# Altium schematic symbol library MainLibrary.SchLib: 167 symbols (part 1 of 2)
Pins are listed as number, name and electrical type; pins without a type are passive.

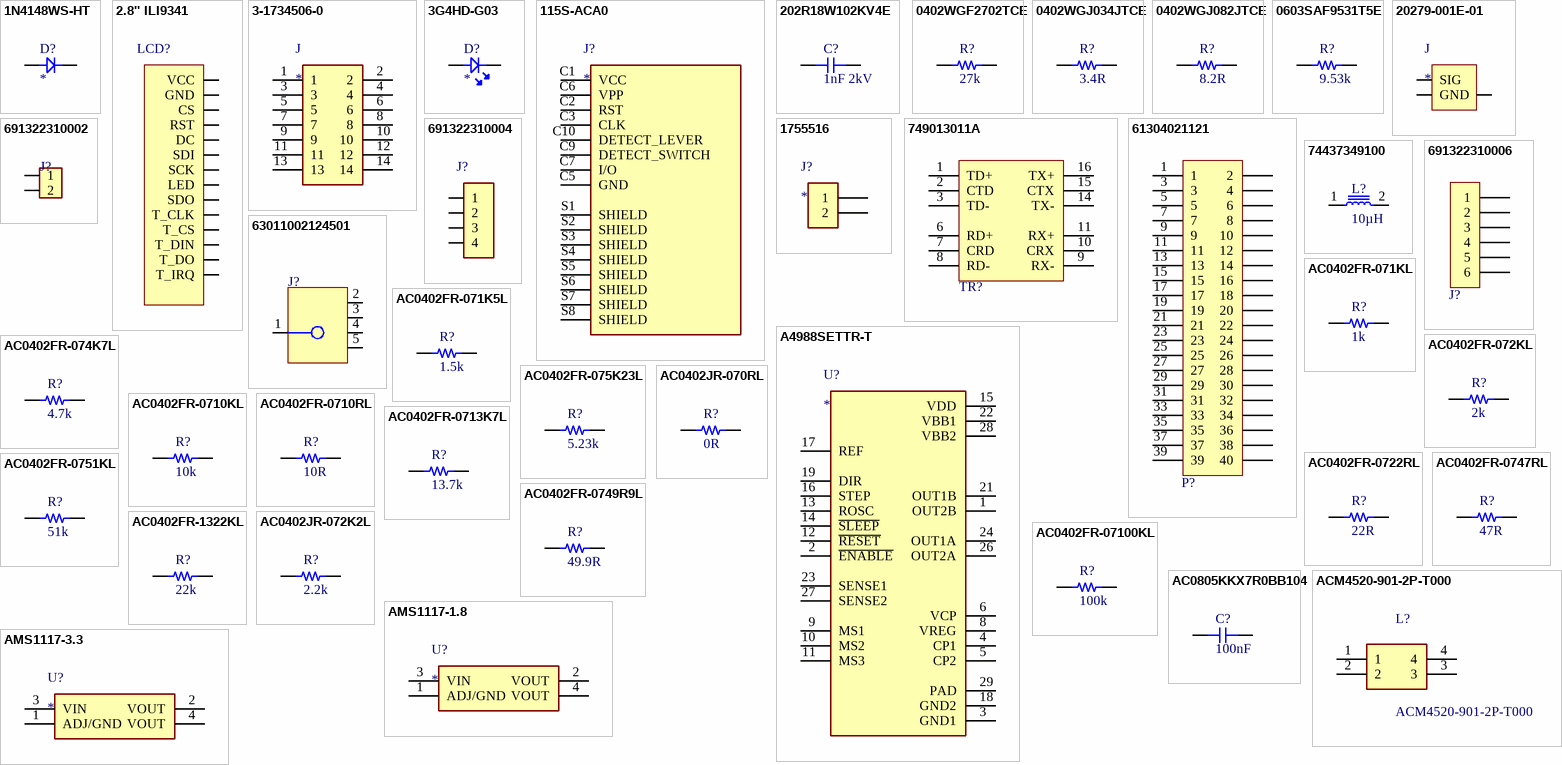
[diagram p0: symbols 1N4148WS-HT to AMS1117-3.3]

## 1N4148WS-HT
designator D?
DIODE FAST SWITCHING Single 150mA 75V SMT SOD323; Manufacturer_Name: Lite-On; Manufacturer_Part_Number: LTST-C190KRKT; Datasheet Link: https://componentsearchengine.com/Datasheets/1/LTST-C190KRKT.pdf; Height: 0.8mm; Mouser Part Number: 859-LTST-C190KRKT; Mouser Price/Stock: https://www.mouser.co.uk/ProductDetail/Lite-On/LTST-C190KRKT?qs=kAD5fFa1n5VY3YYNWPC1Fg%3D%3D; Arrow Part Number: LTST-C190KRKT; Arrow Price/Stock: https://www.arrow.com/en/products/ltst-c190krkt/lite-on-technology?region=europe
footprint SOD323
pins: A, C

## 2.8'' ILI9341
designator LCD?, comment 2.8 Inch LCD TFT  (value not drawn)
footprint 2.8_ILI9841
pins: 1 VCC, 2 GND, 3 CS, 4 RST, 5 DC, 6 SDI, 7 SCK, 8 LED, 9 SDO, 10 T_CLK, 11 T_CS, 12 T_DIN, 13 T_DO, 14 T_IRQ

## 3-1734506-0
designator J
RCPT, 2.0MM, 14P,VRT MT, 8 Au, 2.6ST; Centerline_Pitch: 2 mm[.079 in]; Number_of_Positions: 14; MF: TE Connectivity; Product_Type: Connector; MP: 3-1734506-0; EU_RoHS_Compliance: Compliant; Digi-Key_Part_Number: A108125-ND; Digi-Key_Purchase_URL: https://www.digikey.vn/product-detail/en/te-connectivity-amp-connectors/3-1734506-0/A108125-ND/4022237?utm_source=snapeda&utm_medium=aggregator&utm_campaign=symbol; SnapEDA_Link: https://www.snapeda.com/parts/3-1734506-0/TE%20Connectivity%20AMP%20Connectors/view-part/1653707/?ref=snap; Package: None; TE_purchase_URL: https://www.te.com/usa-en/product-3-1734506-0.html?te_bu=Cor&te_type=disp&te_campaign=seda_glo_cor-seda-global-disp-prtnr-fy19-seda-model-bom-cta_sma-317_1&elqCampaignId=32493; Value: *
footprint TE_3-1734506-0
pins: 1, 2, 3, 4, 5, 6, 7, 8, 9, 10, 11, 12, 13, 14

## 3G4HD-G03
designator D?
LED 3MM GREEN 20mcd 45° GREEN/DIFFUSED; Manufacturer_Name: Lite-On; Manufacturer_Part_Number: LTST-C190KRKT; Datasheet Link: https://componentsearchengine.com/Datasheets/1/LTST-C190KRKT.pdf; Height: 0.8mm; Mouser Part Number: 859-LTST-C190KRKT; Mouser Price/Stock: https://www.mouser.co.uk/ProductDetail/Lite-On/LTST-C190KRKT?qs=kAD5fFa1n5VY3YYNWPC1Fg%3D%3D; Arrow Part Number: LTST-C190KRKT; Arrow Price/Stock: https://www.arrow.com/en/products/ltst-c190krkt/lite-on-technology?region=europe
footprint LED_SSL-LX4673GD-LA20
pins: A, C

## 115S-ACA0
designator J?
Nano SIM Card Connector, Eject Type, Top Mount, H=1.35mm, 5u; MF: Attend; MP: 115S-ACA0; Check_prices: https://www.snapeda.com/parts/115S-ACA0/Attend/view-part/2618528/?ref=eda; Package: None; Value: *; SnapEDA_Link: https://www.snapeda.com/parts/115S-ACA0/Attend/view-part/2618528/?ref=snap; Availability: Warning; Price: None
footprint ATTEND_115S-ACA0
pins: C1 VCC (power), C2 RST, C3 CLK, C5 GND (power), C6 VPP, C7 I/O, C9 DETECT_SWITCH, C10 DETECT_LEVER, S1 SHIELD, S2 SHIELD, S3 SHIELD, S4 SHIELD, S5 SHIELD, S6 SHIELD, S7 SHIELD, S8 SHIELD

## 202R18W102KV4E
designator C?, comment 1nF 2kV
MLCC (3216) 1206 1nF 2000VDC ±10% X7R
footprint 1206
pins: 1, 2

## 0402WGF2702TCE
designator R?, comment 27k
RES.(1005) 0402 27K Ohms 1% 1/16W 100PPM
footprint 0402_RES
pins: 1, 2

## 0402WGJ034JTCE
designator R?, comment 3.4R
RES.(1005) 0402 3.4 Ohms 5% 1/16W 400PPM
footprint 0402_RES
pins: 1, 2

## 0402WGJ082JTCE
designator R?, comment 8.2R
RES.(1005) 0402 8.2 Ohms 5% 1/16W 400PPM
footprint 0402_RES
pins: 1, 2

## 0603SAF9531T5E
designator R?, comment 9.53k
RES.(1608) 0603 9.53K Ohms 1% 1/10W-S 100PPM
footprint 0603_RES
pins: 1, 2

## 20279-001E-01
designator J
Conn MHF 0Hz to 6GHz 50Ohm Solder ST SMD RCP Gold T/R; MP: 20279-001E-01; MF: Taoglas Limited; Package: None; SnapEDA_Link: https://www.snapeda.com/parts/20279-001E-01/Taoglas%20Limited/view-part/3221459/?ref=snap; Price: None; Value: *; Availability: Unavailable
footprint IPEX_20279-001E-01
pins: 1 SIG, 2 GND, 3 GND

## 1755516
designator J?
TERM BLOCK HDR 2POS VERT 5MM; MP: 1755516; Package: None; Price: None; Value: *; Availability: Unavailable
footprint PHOENIX_1755516
pins: 1, 2

## 749013011A
designator TR?, comment 10/100 Base-T, 1 Port  (value not drawn)
WE-LAN LAN Transformer, SMT, 10/100 Base-T, 1 Port, 350uH; Manufacturer Part Number: 749013011A; Manufacturer: Wurth Elektronik; HPLE: No; Insulation Test Voltage: 1500Vrms; Number of Ports: 1; PoE: PoE (up to 350 mA); Turns Ratio: 1:1; Category: Signal Transformers; Match Code: WE-LAN; ComponentLink1Description: Website Link; ComponentLink1URL: https://www.we-online.com/redexpert/article/749013011A?ad; ComponentLink2Description: Datasheet Link; ComponentLink2URL: https://www.we-online.com/redexpert/spec/749013011A?ad; Mount: Surface Mount; Operating Temperature Max: 105°C; Operating Temperature Min: -40°C; Packaging: Tape and Reel; Length: 12.7mm; Width: 8.8mm; Height: 6.35mm; Data Rate: 10/100 Base-T; Inductance: 350uH
footprint 749013011A
pins: 1 TD+, 2 CTD, 3 TD-, 6 RD+, 7 CRD, 8 RD-, 9 RX-, 10 CRX, 11 RX+, 14 TX-, 15 CTX, 16 TX+

## 61304021121
designator P?  (value not drawn)
WR-PHD Pin Header, THT, Vertical, pitch 2.54mm, 2 Row, 40P; Manufacturer: Wurth Elektronik; Contact Resistance: 20mOhm; Rated Current: 3A; Working Voltage: 250V; Withstanding Voltage: 500V; Manufacturer Part Number: 61304021121; Category: Board-to-Board Connectors; Match Code: WR-PHD; ComponentLink1Description: Website Link; ComponentLink1URL: https://www.we-online.com/redexpert/article/61304021121?ad; ComponentLink2Description: Datasheet Link; ComponentLink2URL: https://www.we-online.com/redexpert/spec/61304021121?ad; Mount: Through Hole; Operating Temperature Max: 105°C; Operating Temperature Min: -40°C; Packaging: Bag; Gender: Pin Header; Number of Pins: 40; Number of Rows: 2; Orientation: Vertical; Pitch: 2.54mm
footprint 61304021121
pins: 1, 2, 3, 4, 5, 6, 7, 8, 9, 10, 11, 12, 13, 14, 15, 16, 17, 18, 19, 20, 21, 22, 23, 24, 25, 26, 27, 28, 29, 30, 31, 32, 33, 34, 35, 36, 37, 38, 39, 40

## 74437349100
designator L?, comment 10µH
INDUCTOR FIXED 10UH 3.2A 69 MOHM SMD; MP: ETQ-P3M150KVN; MF: Panasonic Electronic; Purchase-URL: https://pricing.snapeda.com/search/part/ETQ-P3M150KVN/?ref=eda; Package: SMD-2 Panasonic; Availability: In Stock; Price: None; SnapEDA_Link: https://www.snapeda.com/parts/ETQ-P3M150KVN/Panasonic%20Electronic%20Components/view-part/1543573/?ref=snap; Value: *; Check_prices: https://www.snapeda.com/parts/ETQ-P3M150KVN/Panasonic%20Electronic%20Components/view-part/1543573/?ref=eda
footprint WE-LHMI_7050 (SMT Power Inductor, 2-Leads, body 6.6x6.6mm)
pins: 1, 2

## 691322310002
designator J?  (value not drawn)
WURTH 3.81MM Terminal Block 691322310002
footprint WURTH_3_81_691322310002
pins: 1, 2

## 691322310004
designator J?  (value not drawn)
WURTH 3.81MM Terminal Block 691322310004
footprint 691322310004 (Horizontal PCB Header, pitch 3.81mm, 04p)
pins: 1, 2, 3, 4

## 691322310006
designator J?  (value not drawn)
WR-TBL Series 322 Horizontal PCB Header, THT, pitch 3.81mm, 6p; Manufacturer: Wurth Elektronik; Modularity: No; Rated Current: 10A; Working Voltage: 300V; ComponentLink1Description: Website Link; ComponentLink1URL: https://www.we-online.com/redexpert/article/691322310006?ad; ComponentLink2Description: Datasheet Link; ComponentLink2URL: https://www.we-online.com/redexpert/spec/691322310006?ad; Manufacturer Part Number: 691322310006; Category: Terminal Blocks; Match Code: WR-TBL; Mount: Through Hole; Operating Temperature Max: 105°C; Operating Temperature Min: -40°C; Packaging: Box; Application: Pluggable; Number of Pins: 6; Number of Rows: 1; Orientation: Horizontal; Pitch: 3.81mm
footprint 691322310006
pins: 1, 2, 3, 4, 5, 6

## 63011002124501
designator J?  (value not drawn)
WR-RPSMA Reverse Polarity SMA Connector, PCB THT Jack, Right Angle, DC~18GHz, 50Ω; Manufacturer: Wurth Elektronik; Center Contact Diameter: 1.27mm; Connector Type: RP SMA; Interface Type: MIL-STD-348; ComponentLink1Description: Website Link; ComponentLink1URL: https://www.we-online.com/redexpert/article/63011002124501?ad; ComponentLink2Description: Datasheet Link; ComponentLink2URL: https://www.we-online.com/redexpert/spec/63011002124501?ad; Manufacturer Part Number: 63011002124501; Category: Coaxial Connectors; Match Code: WR-RPSMA; Mount: Through Hole; Operating Temperature Max: 165°C; Operating Temperature Min: -65°C; Packaging: Tray; Frequency Range: DC~18GHz; Gender: Jack; Impedance: 50Ω; Orientation: Right Angle
footprint 63011002124501
pins: 1 Signal "Signal Pin", 2 GND, 3 GND, 4 GND, 5 GND

## A4988SETTR-T
designator U?
Bipolar Motor Driver DMOS Logic 28-QFN (5x5); MF: Allegro; MP: A4988SETTR-T; Check_prices: https://www.snapeda.com/parts/A4988SETTR-T/Allegro%20Industries/view-part/46276/?ref=eda; Value: *; Purchase-URL: https://pricing.snapeda.com/search/part/A4988SETTR-T/?ref=eda; Digi-Key_Part_Number: 620-1343-1-ND; SnapEDA_Link: https://www.snapeda.com/parts/A4988SETTR-T/Allegro%20Industries/view-part/46276/?ref=snap; Package: QFN-28 Allegro MicroSystems LLC
footprint QFN50P500X500X90-29N
pins: 1 OUT2B, 2 ~{ENABLE}, 3 GND1, 4 CP1, 5 CP2, 6 VCP, 8 VREG, 9 MS1, 10 MS2, 11 MS3, 12 ~{RESET}, 13 ROSC, 14 ~{SLEEP}, 15 VDD, 16 STEP, 17 REF, 18 GND2, 19 DIR, 21 OUT1B, 22 VBB1, 23 SENSE1, 24 OUT1A, 26 OUT2A, 27 SENSE2, 28 VBB2, 29 PAD

## AC0402FR-071K5L
designator R?, comment 1.5k
RES.(1005) 0402 1.5K Ohms 1% 1/16W 100PPM AEC-Q200
footprint 0402_RES
pins: 1, 2

## AC0402FR-071KL
designator R?, comment 1k
RES.(1005) 0402 1K Ohms 1% 1/16W 100PPM AEC-Q200 S
footprint 0402_RES
pins: 1, 2

## AC0402FR-072KL
designator R?, comment 2k
RES.(1005) 0402 2K Ohms 1% 1/16W 100PPM AEC-Q200 S
footprint 0402_RES
pins: 1, 2

## AC0402FR-074K7L
designator R?, comment 4.7k
RES.(1005) 0402 4.7K Ohms 1% 1/16W 100PPM AEC-Q200
footprint 0402_RES
pins: 1, 2

## AC0402FR-075K23L
designator R?, comment 5.23k
RES.(1005) 0402 5.23K Ohms 1% 1/16W 100PPM AEC-Q200
footprint 0402_RES
pins: 1, 2

## AC0402FR-0710KL
designator R?, comment 10k
RES.(1005) 0402 10K Ohms 1% 1/16W
footprint 0402_RES
pins: 1, 2

## AC0402FR-0710RL
designator R?, comment 10R
RES.(1005) 0402 10 Ohms 1% 1/16W 200PPM AEC-Q200 S
footprint 0402_RES
pins: 1, 2

## AC0402FR-0713K7L
designator R?, comment 13.7k
RES.(1005) 0402 13.7K Ohms 1% 1/16W 100PPM AEC-Q200
footprint 0402_RES
pins: 1, 2

## AC0402FR-0722RL
designator R?, comment 22R
RES.(1005) 0402 22 Ohms 1% 1/16W AEC-Q200
footprint 0402_RES
pins: 1, 2

## AC0402FR-0747RL
designator R?, comment 47R
RES.(1005) 0402 47 Ohms 1% 1/16W 100PPM AEC-Q200 S
footprint 0402_RES
pins: 1, 2

## AC0402FR-0749R9L
designator R?, comment 49.9R
RES.(1005) 0402 49.9 Ohms 1% 1/16W 100PPM AEC-Q200
footprint 0402_RES
pins: 1, 2

## AC0402FR-0751KL
designator R?, comment 51k
RES.(1005) 0402 51K Ohms 1% 1/16W 100PPM AEC-Q200
footprint 0402_RES
pins: 1, 2

## AC0402FR-1322KL
designator R?, comment 22k
RES.(1005) 0402 22K Ohms 1% 1/16W 100PPM AEC-Q200
footprint 0402_RES
pins: 1, 2

## AC0402FR-07100KL
designator R?, comment 100k
RES.(1005) 0402 100K Ohms 1% 1/16W 100PPM AEC-Q200
footprint 0402_RES
pins: 1, 2

## AC0402JR-070RL
designator R?, comment 0R
RES.(1005) 0402 0 Ohms JUMPER 1/16W AEC-Q200 SMT
footprint 0402_RES
pins: 1, 2

## AC0402JR-072K2L
designator R?, comment 2.2k
RES.(1005) 0402 2.2K Ohms 5% 1/16W
footprint 0402_RES
pins: 1, 2

## AC0805KKX7R0BB104
designator C?, comment 100nF
MLCC (2012) 0805 100nF 100VDC ±10% X7R
footprint 0603
pins: 1, 2

## ACM4520-901-2P-T000
designator L?
TDK - ACM4520-901-2P-T000 - COMMON MODE CHOKE, 50V, 2.3A, SURFACE MOUNT-SMD; Geometry.Height: 2mm; Manufacturer_Name: TDK; Manufacturer_Part_Number: ACM4520-901-2P-T000; Mouser Part Number: 810-ACM45209012PT000; Mouser Price/Stock: https://www.mouser.co.uk/ProductDetail/TDK/ACM4520-901-2P-T000?qs=zbxBLa8cTxhOnOT1K%252BrnFA%3D%3D; Arrow Part Number: ACM4520-901-2P-T000; Arrow Price/Stock: https://www.arrow.com/en/products/acm4520-901-2p-t000/tdk?region=nac; Datasheet Link: https://product.tdk.com/system/files/dam/doc/product/emc/emc/cmf_cmc/catalog/cmf_commercial_power_acm4520_en.pdf
footprint ACM45204212PT000
pins: 1, 2, 3, 4

## AMS1117-1.8
designator U?
1A LOW DROPOUT VOLTAGE REGULATOR SOT-223; MP: AMS1117; MF: Advanced Monolithic Systems; Price: None; Availability: Not in stock; Package: SOT-223 Seeed Technology; Value: *; SnapEDA_Link: https://www.snapeda.com/parts/AMS1117/Advanced+Monolithic+Systems/view-part/?ref=snap; Check_prices: https://www.snapeda.com/parts/AMS1117/Advanced+Monolithic+Systems/view-part/?ref=eda
footprint SOT229P700X180-4N
pins: 1 ADJ/GND (power), 2 VOUT, 3 VIN, 4 VOUT

## AMS1117-3.3
designator U?
1A LOW DROPOUT VOLTAGE REGULATOR SOT-223; MP: AMS1117; MF: Advanced Monolithic Systems; Price: None; Availability: Not in stock; Package: SOT-223 Seeed Technology; Value: *; SnapEDA_Link: https://www.snapeda.com/parts/AMS1117/Advanced+Monolithic+Systems/view-part/?ref=snap; Check_prices: https://www.snapeda.com/parts/AMS1117/Advanced+Monolithic+Systems/view-part/?ref=eda
footprint SOT229P700X180-4N
pins: 1 ADJ/GND (power), 2 VOUT, 3 VIN, 4 VOUT

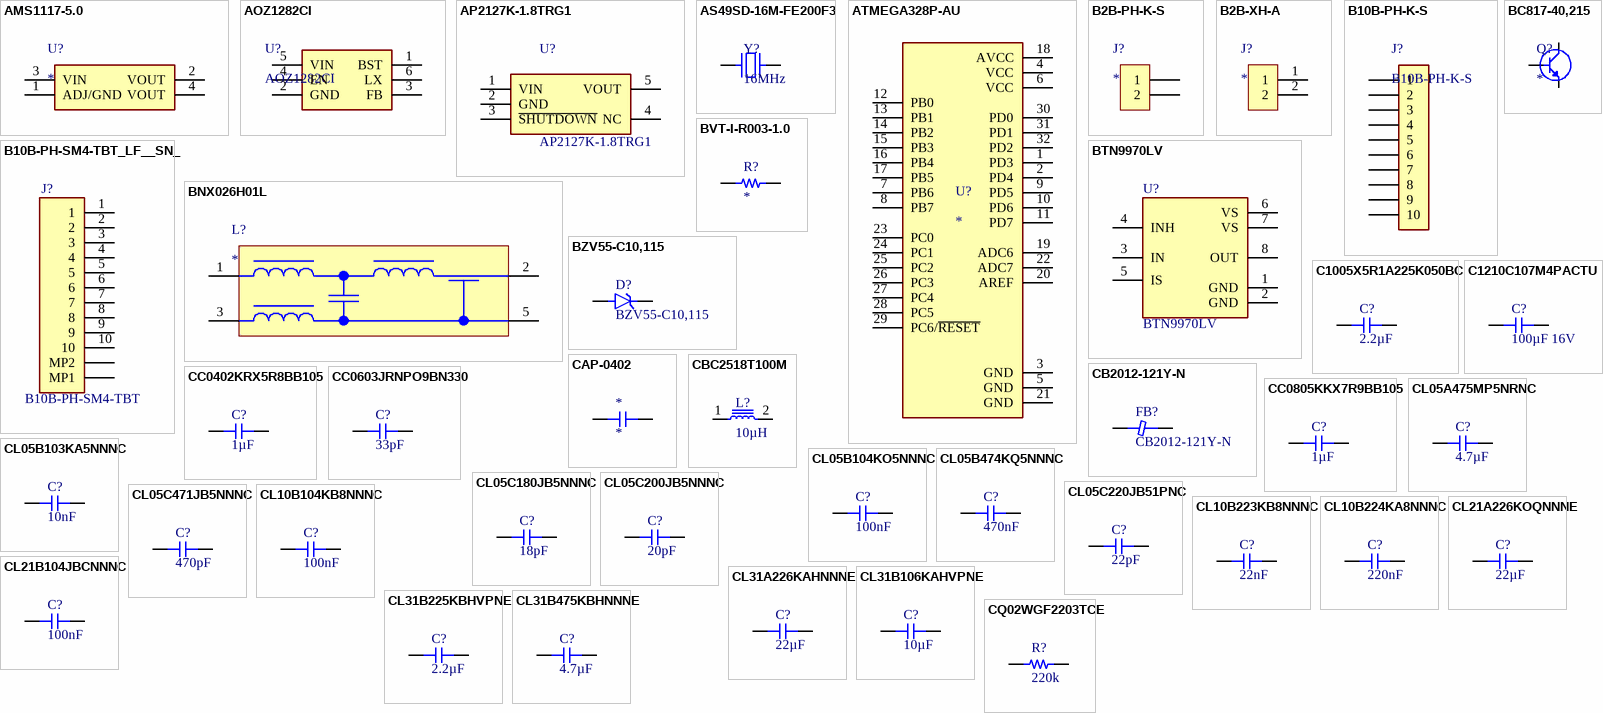
[diagram p1: symbols AMS1117-5.0 to CQ02WGF2203TCE]

## AMS1117-5.0
designator U?
1A LOW DROPOUT VOLTAGE REGULATOR SOT-223; MP: AMS1117; MF: Advanced Monolithic Systems; Price: None; Availability: Not in stock; Package: SOT-223 Seeed Technology; Value: *; SnapEDA_Link: https://www.snapeda.com/parts/AMS1117/Advanced+Monolithic+Systems/view-part/?ref=snap; Check_prices: https://www.snapeda.com/parts/AMS1117/Advanced+Monolithic+Systems/view-part/?ref=eda
footprint SOT229P700X180-4N
pins: 1 ADJ/GND (power), 2 VOUT, 3 VIN, 4 VOUT

## AOZ1282CI
designator U?
IC-1282 REG BUCK ADJ 1.2A SOT23-6; Manufacturer_Name: Alpha & Omega Semiconductors; Datasheet Link: http://www.aosmd.com/res/data_sheets/AOZ1282CI.pdf; Height: 1.25mm; Manufacturer_Part_Number: AOZ1282CI; Arrow Part Number: AOZ1282CI; Arrow Price/Stock: https://www.arrow.com/en/products/aoz1282ci/alpha-and-omega-semiconductor?region=nac
footprint SOT95P280X125-6N
pins: 1 BST, 2 GND, 3 FB, 4 EN, 5 VIN, 6 LX

## AP2127K-1.8TRG1
designator U?
Linear Voltage Regulator IC Positive Fixed 1 Output 300mA SOT-23-5; Manufacturer_Name: Diodes Incorporated; Geometry.Height: 1.45mm; Manufacturer_Part_Number: AP2127K-1.8TRG1; Mouser Part Number: 621-AP2127K-1.8TRG1; Mouser Price/Stock: https://www.mouser.co.uk/ProductDetail/Diodes-Incorporated/AP2127K-1.8TRG1?qs=x6A8l6qLYDDmU4WXw4%252BBlA%3D%3D; Arrow Part Number: AP2127K-1.8TRG1; Arrow Price/Stock: https://www.arrow.com/en/products/ap2127k-1.8trg1/diodes-incorporated?region=nac; Datasheet Link: https://www.diodes.com//assets/Datasheets/AP2127.pdf
footprint SOT95P282X145-5N
pins: 1 VIN, 2 GND, 3 ~{SHUTDOWN}, 4 NC, 5 VOUT

## AS49SD-16M-FE200F3
designator Y?, comment 16MHz
CRYSTAL 16MHz 20pF SMD
footprint HC49S
pins: 1, 2

## ATMEGA328P-AU
designator U?
AVR AVRÂ® ATmega Microcontroller IC 8-Bit 20MHz 32KB (16K x 16) FLASH 32-TQFP (7x7); MF: Microchip; MP: ATMEGA328P-AU; SnapEDA_Link: https://www.snapeda.com/parts/ATMEGA328P-AU/Microchip/view-part/?ref=snap; Package: TQFP-32 Microchip; Value: *; Check_prices: https://www.snapeda.com/parts/ATMEGA328P-AU/Microchip/view-part/?ref=eda
footprint QFP80P900X900X120-32N
pins: 1 PD3, 2 PD4, 3 GND (power), 4 VCC (power), 5 GND (power), 6 VCC (power), 7 PB6, 8 PB7, 9 PD5, 10 PD6, 11 PD7, 12 PB0, 13 PB1, 14 PB2, 15 PB3, 16 PB4, 17 PB5, 18 AVCC (power), 19 ADC6, 20 AREF, 21 GND (power), 22 ADC7, 23 PC0, 24 PC1, 25 PC2, 26 PC3, 27 PC4, 28 PC5, 29 PC6/~{RESET}, 30 PD0, 31 PD1, 32 PD2

## B2B-PH-K-S
designator J?
Connector Header Through Hole 2 position 0.079 (2.00mm); MF: JST Sales America Inc.; MP: B2B-PH-K-S; SnapEDA_Link: https://www.snapeda.com/parts/B2B-PH-K-S/JST/view-part/?ref=snap; Package: None; Value: *; Check_prices: https://www.snapeda.com/parts/B2B-PH-K-S/JST/view-part/?ref=eda
footprint JST_B2B-PH-K-S
pins: 1, 2

## B2B-XH-A
designator J?
CONN HEADER VERT 2POS 2.5MM; MF: {'manufacturer': u'JST Sales America Inc.'}; MP: B2B-XH-A; Package: None; Price: None; Value: *; Availability: Unavailable
footprint JST_B2B-XH-A
pins: 1, 2

## B10B-PH-K-S
designator J?
2.0 mm pitch/Disconnectable Crimp style connectors; MF: JST Sales America Inc.; SnapEDA_Link: https://www.snapeda.com/parts/B10B-PH-K-S/JST/view-part/?ref=snap; Package: None; Value: *; MP: B10B-PH-K-S; Check_prices: https://www.snapeda.com/parts/B10B-PH-K-S/JST/view-part/?ref=eda
footprint JST_B10B-PH-K-S
pins: 1, 2, 3, 4, 5, 6, 7, 8, 9, 10

## B10B-PH-SM4-TBT_LF__SN_
designator J?, comment B10B-PH-SM4-TBT
Connector Header Surface Mount 10 position 0.079" (2.00mm); Manufacturer_Name: JST (JAPAN SOLDERLESS TERMINALS); Geometry.Height: 6.6mm; Manufacturer_Part_Number: B10B-PH-SM4-TBT; Mouser Part Number: *; Mouser Price/Stock: *; Arrow Part Number: *; Arrow Price/Stock: *; Datasheet Link: http://www.jst-mfg.com/product/pdf/eng/ePH.pdf
footprint B10BPHSM4TBTLFSN
pins: 1, 2, 3, 4, 5, 6, 7, 8, 9, 10, MP1, MP2

## BC817-40,215
designator Q?
0.5A 45V BJT NPN Transistor SOT23 SMD; Manufacturer_Name: Nexperia; Manufacturer_Part_Number: BC817-40,215; Datasheet Link: https://assets.nexperia.com/documents/data-sheet/BC817_SER.pdf; Height: 1.1mm; Mouser Part Number: 771-BC817-40-T/R; Mouser Price/Stock: https://www.mouser.co.uk/ProductDetail/Nexperia/BC817-40215?qs=me8TqzrmIYU%252B245p8hOLaQ%3D%3D; Arrow Part Number: BC817-40,215; Arrow Price/Stock: https://www.arrow.com/en/products/bc817-40215/nexperia?region=nac
footprint BC81740215
pins: 1 B, 2 E, 3 C

## BNX026H01L
designator L?
LC EMI Filter 5th Order Low Pass 2 Channel C = 10ÂµF 20 A 4-SMD, No Lead; MF: Murata; MP: BNX026H01L; Value: *; SnapEDA_Link: https://www.snapeda.com/parts/BNX026H01L/Murata/view-part/?ref=snap; Purchase-URL: https://pricing.snapeda.com/search/part/BNX026H01L/?ref=eda; Availability: In Stock; Price: None; Package: SMD-4 Murata; Check_prices: https://www.snapeda.com/parts/BNX026H01L/Murata/view-part/?ref=eda
footprint FIL_BNX026H01L
pins: 1 B, 2 CB, 3 PSG, 5 CB

## BTN9970LV
designator U?
High Current PN Half-Bridge with Integrated Driver; Manufacturer: Infineon Tecnologies; Manufacturer Order Number: BTN9970LV; PackageReference: PG-HSOF-7-1
footprint IFX-PG-HSOF-7-1-V (HSOF-7-1; SMD, 0.90 mm Pitch, 8 pin, 6.70 mm L X 7.00 mm W X 2.30 mm H body)
pins: 1 GND (power) "Ground", 2 GND (power) "Ground", 3 IN "Defines whether high- or low-side switch is activated", 4 INH "Inhibit", 5 IS "Current Sense, Temperature Sense, slew-rate level and Diagnostics", 6 VS (power) "Supply", 7 VS (power) "Supply", 8 OUT "Power output of the bridge"

## BVT-I-R003-1.0
designator R?
3mOhm Shunt Resistor 2512 SMD Package; Manufacturer_Name: Isabellenhutte; Manufacturer_Part_Number: BVT-I-R003-1.0; Datasheet Link: https://www.isabellenhuetteusa.com/wp-content/uploads/2020/05/BVT.pdf; Height: 0.38mm
footprint BVTIR00310
pins: 1, 2

## BZV55-C10,115
designator D?
500mW 10V Zener Diode; MP: BZV55C47_L1; Value: *; Availability: Unavailable; Package: None; Price: None
footprint DIOMELF3515N
pins: A, C K

## C1005X5R1A225K050BC
designator C?, comment 2.2µF
MLCC (1005) 0402 2.2uF 10VDC ±10% X5R
footprint 0402_CAP
pins: 1, 2

## C1210C107M4PACTU
designator C?, comment 100µF 16V
MLCC (3225) 1210 100uF 16VDC ±20% X5R
footprint 1210_CAP
pins: 1, 2

## CAP-0402
designator *
footprint 0402_CAP
pins: 1, 2

## CB2012-121Y-N
designator FB?
Ferrite Bead 300mA 0805 SMD
footprint Inductor-0805
pins: 1, 2

## CBC2518T100M
designator L?, comment 10µH
10µH Unshielded Wirewound Inductor 680mA 468mOhm Max 1007 2518 Metric; MP: CBC2518T100M; MF: Taiyo Yuden; Price: None; Package: 2518 Taiyo Yuden; Value: *; Availability: Unavailable; SnapEDA_Link: https://www.snapeda.com/parts/CBC2518T100M/Taiyo%20Yuden/view-part/1393386/?ref=snap
footprint INDC2518X200N
pins: 1, 2

## CC0402KRX5R8BB105
designator C?, comment 1µF
MLCC (1005) 0402 1uF 25VDC ±10% X5R
footprint 0402_CAP
pins: 1, 2

## CC0603JRNPO9BN330
designator C?, comment 33pF
MLCC (1608) 0603 33pF 50VDC ±5% C0G (NP0)
footprint 0603
pins: 1, 2

## CC0805KKX7R9BB105
designator C?, comment 1µF
MLCC (2012) 0805 1uF 50VDC ±10% X7R
footprint 0805
pins: 1, 2

## CL05A475MP5NRNC
designator C?, comment 4.7µF
MLCC (1005) 0402 4.7uF 10VDC ±20% X5R
footprint 0402_CAP
pins: 1, 2

## CL05B103KA5NNNC
designator C?, comment 10nF
MLCC (1005) 0402 10nF 25VDC ±10% X7R
footprint 0402_CAP
pins: 1, 2

## CL05B104KO5NNNC
designator C?, comment 100nF
MLCC (1005) 0402 100nF 16VDC ±10% X7R
footprint 0402_CAP
pins: 1, 2

## CL05B474KQ5NNNC
designator C?, comment 470nF
MLCC (1005) 0402 470nF 6.3VDC ±10% X7R
footprint 0402_CAP
pins: 1, 2

## CL05C180JB5NNNC
designator C?, comment 18pF
MLCC (1005) 0402 18pF 50VDC ±5% C0G (NP0)
footprint 0402_CAP
pins: 1, 2

## CL05C200JB5NNNC
designator C?, comment 20pF
MLCC (1005) 0402 20pF 50VDC ±5% C0G (NP0)
footprint 0402_CAP
pins: 1, 2

## CL05C220JB51PNC
designator C?, comment 22pF
MLCC (1005) 0402 22pF 50VDC ±5% C0G (NP0)
footprint 0402_CAP
pins: 1, 2

## CL05C471JB5NNNC
designator C?, comment 470pF
MLCC (1005) 0402 470pF 50VDC ±5% C0G (NP0)
footprint 0402_CAP
pins: 1, 2

## CL10B104KB8NNNC
designator C?, comment 100nF
MLCC (1608) 0603 100nF 50VDC ±10% X7R
footprint 0603
pins: 1, 2

## CL10B223KB8NNNC
designator C?, comment 22nF
MLCC (1608) 0603 22nF 50VDC ±10% X7R
footprint 0603
pins: 1, 2

## CL10B224KA8NNNC
designator C?, comment 220nF
MLCC (1608) 0603 220nF 25VDC ±10% X7R
footprint 0603
pins: 1, 2

## CL21A226KOQNNNE
designator C?, comment 22µF
MLCC (2012) 0805 22uF 16VDC ±10% X5R
footprint 0805
pins: 1, 2

## CL21B104JBCNNNC
designator C?, comment 100nF
MLCC (2012) 0805 100nF 50VDC ±5% X7R
footprint 0805
pins: 1, 2

## CL31A226KAHNNNE
designator C?, comment 22µF
MLCC (3216) 1206 22uF 25VDC ±10% X5R
footprint 1206
pins: 1, 2

## CL31B106KAHVPNE
designator C?, comment 10µF
MLCC (3216) 1206 10uF 25VDC ±10% X7R AUTOMOTIVE
footprint 0805
pins: 1, 2

## CL31B225KBHVPNE
designator C?, comment 2.2µF
MLCC (3216) 1206 2.2uF 50VDC ±10% X7R AUTOMOTIVE
footprint 1206
pins: 1, 2

## CL31B475KBHNNNE
designator C?, comment 4.7µF
MLCC (3216) 1206 4.7uF 50VDC ±10% X7R
footprint 1206
pins: 1, 2

## CQ02WGF2203TCE
designator R?, comment 220k
RES.(1005) 0402 220K Ohms 1% 1/16W AUTOMOTIVE
footprint 0402_RES
pins: 1, 2

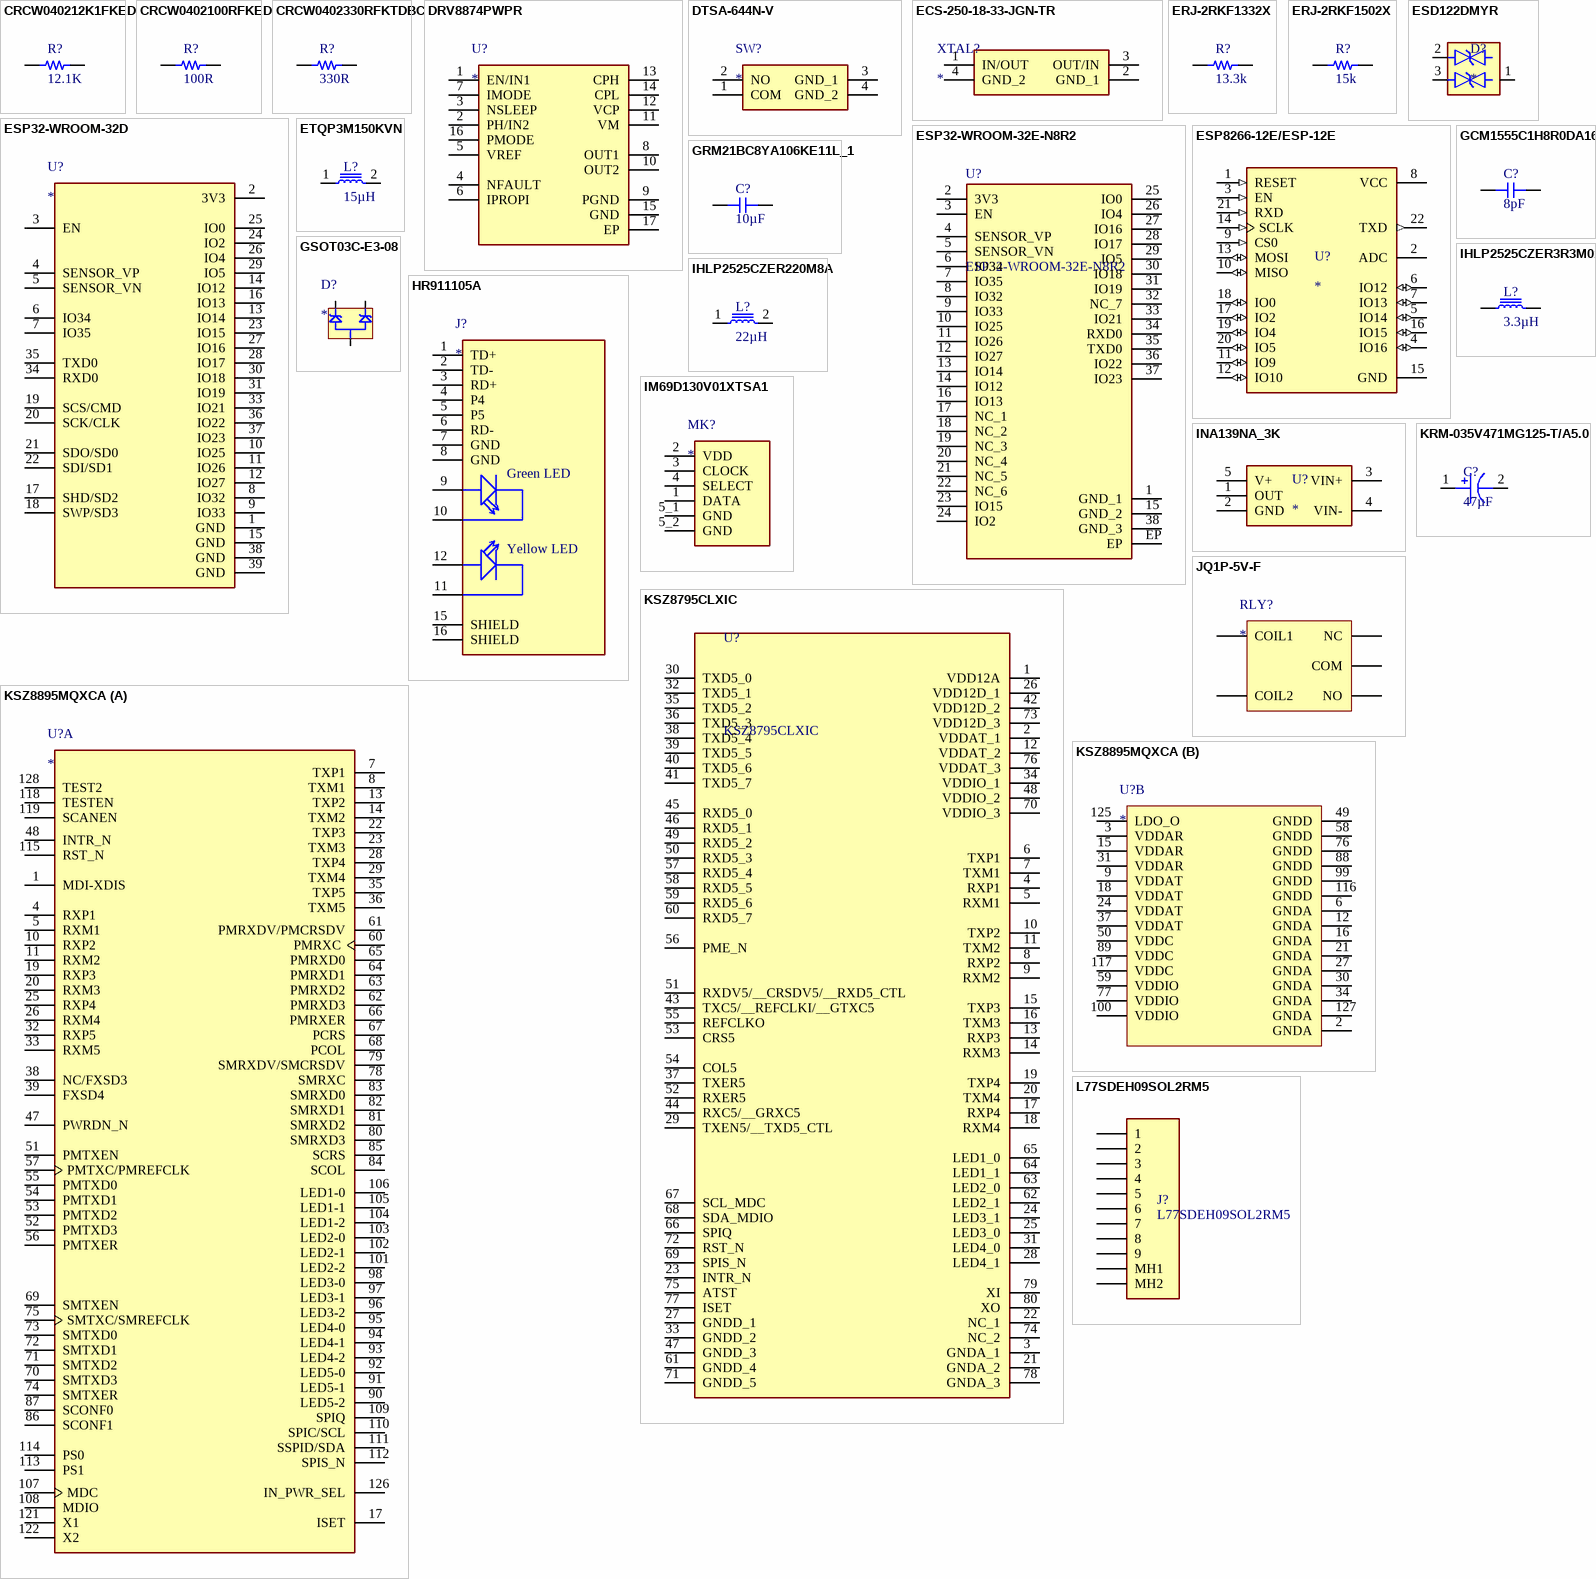
[diagram p2: symbols CRCW040212K1FKED to L77SDEH09SOL2RM5]

## CRCW040212K1FKED
designator R?, comment 12.1K
RES.(1005) 0402 12.1K Ohms 1% 1/16W 100PPM
footprint 0402_RES
pins: 1, 2

## CRCW0402100RFKED
designator R?, comment 100R
RES.(1005) 0402 100 Ohms 1% 1/16W 100PPM
footprint 0402_RES
pins: 1, 2

## CRCW0402330RFKTDBC
designator R?, comment 330R
RES.(1005) 0402 330 Ohms 1% 1/16W 100PPM
footprint 0402_RES
pins: 1, 2

## DRV8874PWPR
designator U?
40-V, 6-A H-bridge motor driver with integrated current sensing feedback; MP: DRV8874PWPR; MF: Texas Instruments; Price: None; Availability: In Stock; Package: HTSSOP-16 Texas Instruments; Value: *; SnapEDA_Link: https://www.snapeda.com/parts/DRV8874PWPR/Texas+Instruments/view-part/?ref=snap; Purchase-URL: https://pricing.snapeda.com/search/part/DRV8874PWPR/?ref=eda; Check_prices: https://www.snapeda.com/parts/DRV8874PWPR/Texas+Instruments/view-part/?ref=eda
footprint SOP65P640X120-17N
pins: 1 EN/IN1, 2 PH/IN2, 3 NSLEEP, 4 NFAULT, 5 VREF, 6 IPROPI, 7 IMODE, 8 OUT1, 9 PGND (power), 10 OUT2, 11 VM (power), 12 VCP (power), 13 CPH (power), 14 CPL (power), 15 GND (power), 16 PMODE, 17 EP

## DTSA-644N-V
designator SW?
Button DIP; Manufacturer_Name: Diptronics; Manufacturer_Part_Number: DTSA-644N-V; Datasheet Link: https://ru.mouser.com/ProductDetail/Diptronics/DTSA-644N-V?qs=gTYE2QTfZfTLDusQpQJufA%3D%3D; Height: 8mm; Mouser Part Number: 113-DTSA-644N-V; Mouser Price/Stock: https://www.mouser.co.uk/ProductDetail/Diptronics/DTSA-644N-V?qs=gTYE2QTfZfTLDusQpQJufA%3D%3D
footprint DTSA644NV
pins: 1 COM, 2 NO, 3 GND_1, 4 GND_2

## ECS-250-18-33-JGN-TR
designator XTAL?
25 MHz 4 Pin Crystal OSC SMD; Manufacturer_Name: ECS; Manufacturer_Part_Number: ECS-250-18-33-JGN-TR; Datasheet Link: https://componentsearchengine.com/Datasheets/1/ECS-250-18-33-JGN-TR.pdf; Height: 0.8mm; Mouser Part Number: 520-250-18-33-JGNT; Mouser Price/Stock: https://www.mouser.co.uk/ProductDetail/ECS/ECS-250-18-33-JGN-TR?qs=AQlKX63v8RsjuKdEYMjMow%3D%3D; Arrow Part Number: ECS-250-18-33-JGN-TR; Arrow Price/Stock: https://www.arrow.com/en/products/ecs-250-18-33-jgn-tr/ecs-international?region=nac
footprint ECS2501833JGNTR
pins: 1 IN/OUT, 2 GND_1, 3 OUT/IN, 4 GND_2

## ERJ-2RKF1332X
designator R?, comment 13.3k
RES.(1005) 0402 13.3K Ohms 1% 1/10W 100PPM
footprint 0402_RES
pins: 1, 2

## ERJ-2RKF1502X
designator R?, comment 15k
RES.(1005) 0402 15K Ohms 1% 1/10W 100PPM
footprint 0402_RES
pins: 1, 2

## ESD122DMYR
designator D?
Dual 0.2-pF, Â±3.6-V, Â±18-kV ESD protection diode for USB Type-C and HDMI 2.0; MF: Texas Instruments; MP: ESD122DMYR; SnapEDA_Link: https://www.snapeda.com/parts/ESD122DMYR/Texas+Instruments/view-part/?ref=snap; Package: X2SON-3 Texas Instruments; Value: *; Check_prices: https://www.snapeda.com/parts/ESD122DMYR/Texas+Instruments/view-part/?ref=eda
footprint DIO_ESD122DMYR
pins: 1 GND (power), 2 IO1, 3 IO2

## ESP32-WROOM-32D
designator U?
Bluetooth, WiFi 802.11b/g/n, Bluetooth v4.2 +EDR, Class 1, 2 and 3 Transceiver Module 2.4GHz ~ 2.5GHz Integrated; MP: ESP32-WROOM-32D; MF: Espressif Systems; Price: None; Availability: In Stock; Package: Module Espressif Systems; Value: *; SnapEDA_Link: https://www.snapeda.com/parts/ESP32-WROOM-32D/Espressif+Systems/view-part/?ref=snap; Purchase-URL: https://pricing.snapeda.com/search/part/ESP32-WROOM-32D/?ref=eda; Check_prices: https://www.snapeda.com/parts/ESP32-WROOM-32D/Espressif+Systems/view-part/?ref=eda
footprint MODULE_ESP32-WROOM-32D
pins: 1 GND, 2 3V3, 3 EN, 4 SENSOR_VP, 5 SENSOR_VN, 6 IO34, 7 IO35, 8 IO32, 9 IO33, 10 IO25, 11 IO26, 12 IO27, 13 IO14, 14 IO12, 15 GND, 16 IO13, 17 SHD/SD2, 18 SWP/SD3, 19 SCS/CMD, 20 SCK/CLK, 21 SDO/SD0, 22 SDI/SD1, 23 IO15, 24 IO2, 25 IO0, 26 IO4, 27 IO16, 28 IO17, 29 IO5, 30 IO18, 31 IO19, 33 IO21, 34 RXD0, 35 TXD0, 36 IO22, 37 IO23, 38 GND, 39 GND

## ESP32-WROOM-32E-N8R2
designator U?
Multiprotocol Modules ESP32-WROOM-32E integrates ESP32-D0WD-V3, with higher stability and safety performance.; Manufacturer_Name: Espressif Systems; Geometry.Height: 3.25mm; Manufacturer_Part_Number: ESP32-WROOM-32E-N8R2; Mouser Part Number: 356-ESP32WRM32EN8R2; Mouser Price/Stock: https://www.mouser.co.uk/ProductDetail/Espressif-Systems/ESP32-WROOM-32E-N8R2?qs=By6Nw2ByBD0mvGJSS3Ohlw%3D%3D; Arrow Part Number: *; Arrow Price/Stock: *; Datasheet Link: https://www.espressif.com/sites/default/files/documentation/esp32-wroom-32e_esp32-wroom-32ue_datasheet_en.pdf
footprint ESP32WROOM32EN8R2
footprint ESP32WROOM32EN8R2
pins: 1 GND_1, 2 3V3, 3 EN, 4 SENSOR_VP, 5 SENSOR_VN, 6 IO34, 7 IO35, 8 IO32, 9 IO33, 10 IO25, 11 IO26, 12 IO27, 13 IO14, 14 IO12, 15 GND_2, 16 IO13, 17 NC_1, 18 NC_2, 19 NC_3, 20 NC_4, 21 NC_5, 22 NC_6, 23 IO15, 24 IO2, 25 IO0, 26 IO4, 27 IO16, 28 IO17, 29 IO5, 30 IO18, 31 IO19, 32 NC_7, 33 IO21, 34 RXD0, 35 TXD0, 36 IO22, 37 IO23, 38 GND_3, EP

## ESP8266-12E/ESP-12E
designator U?
Integrated ESP8266 Ex + 4MB Flash 32 Bit 80-160MHz Wifi Microcontroller.; MF: AI-Thinker; MP: ESP8266-12E/ESP-12E; Value: *; SnapEDA_Link: https://www.snapeda.com/parts/ESP8266-12E/ESP-12E/AI-Thinker/view-part/?ref=snap; Availability: Not in stock; Price: None; Package: None; Check_prices: https://www.snapeda.com/parts/ESP8266-12E/ESP-12E/AI-Thinker/view-part/?ref=eda
footprint XCVR_ESP8266-12E/ESP-12E
pins: 1 RESET (in), 2 ADC, 3 EN (in), 4 IO16 (io), 5 IO14 (io), 6 IO12 (io), 7 IO13 (io), 8 VCC (power), 9 CS0 (in), 10 MISO (io), 11 IO9 (io), 12 IO10 (io), 13 MOSI (io), 14 SCLK (in), 15 GND (power), 16 IO15 (io), 17 IO2 (io), 18 IO0 (io), 19 IO4 (io), 20 IO5 (io), 21 RXD (in), 22 TXD (out)

## ETQP3M150KVN
designator L?, comment 15µH
15H Shielded Inductor 3A 109.12mOhm Max 2-SMD, J-Lead; MP: ETQ-P3M150KVN; MF: Panasonic Electronic; Purchase-URL: https://pricing.snapeda.com/search/part/ETQ-P3M150KVN/?ref=eda; Package: SMD-2 Panasonic; Availability: In Stock; Price: None; SnapEDA_Link: https://www.snapeda.com/parts/ETQ-P3M150KVN/Panasonic%20Electronic%20Components/view-part/1543573/?ref=snap; Value: *; Check_prices: https://www.snapeda.com/parts/ETQ-P3M150KVN/Panasonic%20Electronic%20Components/view-part/1543573/?ref=eda
footprint IND_ETQP3M150KVN
pins: 1, 2

## GCM1555C1H8R0DA16J
designator C?, comment 8pF
MLCC (1005) 0402 8pF 50VDC ±0.5pF C0G (NP0)
footprint 0402_CAP
pins: 1, 2

## GRM21BC8YA106KE11L_1
designator C?, comment 10µF
MLCC (2012) 0805 10uF 35VDC ±10% X6S
footprint 0805
pins: 1, 2

## GSOT03C-E3-08
designator D?
DIODE TVS 369W 3.3V SOT23-3; Manufacturer_Name: Nexperia; Manufacturer_Part_Number: BC817-40,215; Datasheet Link: https://assets.nexperia.com/documents/data-sheet/BC817_SER.pdf; Height: 1.1mm; Mouser Part Number: 771-BC817-40-T/R; Mouser Price/Stock: https://www.mouser.co.uk/ProductDetail/Nexperia/BC817-40215?qs=me8TqzrmIYU%252B245p8hOLaQ%3D%3D; Arrow Part Number: BC817-40,215; Arrow Price/Stock: https://www.arrow.com/en/products/bc817-40215/nexperia?region=nac
footprint BC81740215
pins: 1, 2, 3

## HR911105A
designator J?
RJ45 Isolated Connector + LED DIP Package; MP: HR911105A; MF: hanrun; SnapEDA_Link: https://www.snapeda.com/parts/HR911105A/HanRun/view-part/?ref=snap; Package: None; Check_prices: https://www.snapeda.com/parts/HR911105A/HanRun/view-part/?ref=eda; Price: None; Value: *; Availability: Not in stock
footprint HANRUN_HR911105A
pins: 1 TD+, 2 TD-, 3 RD+, 4 P4, 5 P5, 6 RD-, 7 GND (power), 8 GND (power), 9 GA, 10 GC, 11 YC, 12 YA, 15 SHIELD, 16 SHIELD
text: Green LED; Yellow LED

## IHLP2525CZER3R3M01
designator L?, comment 3.3µH
3.3uH Shielded Molded Inductor 6A 30 mOhms Non Standard surface mount 2525 (6363 metric); MF: Vishay Dale; MP: IHLP2525CZER3R3M01; SnapEDA_Link: https://www.snapeda.com/parts/IHLP2525CZER3R3M01/Vishay+Dale/view-part/?ref=snap; Package: Non Standard Vishay; Value: *; Check_prices: https://www.snapeda.com/parts/IHLP2525CZER3R3M01/Vishay+Dale/view-part/?ref=eda
footprint IND_IHLP2525CZER3R3M01
pins: 1, 2

## IHLP2525CZER220M8A
designator L?, comment 22µH
FIXED INDUCTOR 22UH 2.8A 174 MOHM SMD; Manufacturer_Name: Vishay; Manufacturer_Part_Number: IHLP2525CZER220M8A; Datasheet Link: https://componentsearchengine.com/Datasheets/2/IHLP2525CZER220M8A.pdf; Height: 3mm; Mouser Part Number: 70-IHLP2525CZR220M8A; Mouser Price/Stock: https://www.mouser.co.uk/ProductDetail/Vishay-Dale/IHLP2525CZER220M8A?qs=ei%2FvZTf36ZyKyW60gc1ORQ%3D%3D; Arrow Part Number: IHLP2525CZER220M8A; Arrow Price/Stock: https://www.arrow.com/en/products/ihlp2525czer220m8a/vishay
footprint INDPM6965X300N
pins: 1, 2

## IM69D130V01XTSA1
designator MK?
69 dB(A) signal-to-noise ratio | Below 1 percent distortions at 128 dBSPL (AOP - 130 dBSPL) | Digital (PDM) interface with 6 ?s group delay at 1 kHz | Tight sensitivity (-36 1 dB) and phase ( 2 deg) tolerances | 28 Hz low frequency roll-off; MP: IM69D130V01XTSA1; MF: Infineon Technologies; Value: *; Purchase-URL: https://pricing.snapeda.com/search/part/IM69D130V01XTSA1/?ref=eda; Package: None; Price: None; Check_prices: https://www.snapeda.com/parts/IM69D130V01XTSA1/Infineon+Technologies/view-part/?ref=eda; SnapEDA_Link: https://www.snapeda.com/parts/IM69D130V01XTSA1/Infineon+Technologies/view-part/?ref=snap; Availability: In Stock
footprint MIC_IM69D130V01XTSA1
pins: 1 DATA, 2 VDD, 3 CLOCK, 4 SELECT, 5_1 GND, 5_2 GND

## INA139NA_3K
designator U?
%0.5 Current Monitor 40V Analog SMD; Manufacturer_Name: Texas Instruments; Manufacturer_Part_Number: INA139NA/3K; Datasheet Link: http://www.ti.com/lit/gpn/ina139; Height: 1.45mm; Mouser Part Number: 595-INA139NA/3K; Mouser Price/Stock: https://www.mouser.co.uk/ProductDetail/Texas-Instruments/INA139NA-3K?qs=VBduBm9rCJS5yg1Xiaw5Dw%3D%3D; Arrow Part Number: INA139NA/3K; Arrow Price/Stock: https://www.arrow.com/en/products/ina139na3k/texas-instruments?region=nac
footprint SOT95P280X145-5N
pins: 1 OUT, 2 GND, 3 VIN+, 4 VIN-, 5 V+

## JQ1P-5V-F
designator RLY?
General Purpose Relay SPDT (1 Form C) 5VDC Coil Through Hole; MP: JQ1P-5V-F; MF: Panasonic Electric; Availability: Good; Purchase-URL: https://pricing.snapeda.com/search/part/JQ1P-5V-F/?ref=eda; Price: None; Check_prices: https://www.snapeda.com/parts/JQ1P-5V-F/Panasonic%20Electric%20Works/view-part/2219529/?ref=eda; Value: *; SnapEDA_Link: https://www.snapeda.com/parts/JQ1P-5V-F/Panasonic%20Electric%20Works/view-part/2219529/?ref=snap; Package: DO-41 Panasonic
footprint RELAY_JQ1P-5V-F
pins: COIL1, COIL2, COM, NC, NO

## KRM-035V471MG125-T/A5.0
designator C?, comment 47µF
CAP.EL.470uF 35V 10x12.5 5MM 105C TB KOSHIN
footprint CAP_10x12_5MM
pins: 1 +, 2 -

## KSZ8795CLXIC
designator U?
Ethernet ICs 5-Port 10/100 with RGMII/GMII; Manufacturer_Name: Microchip; Geometry.Height: 1.6mm; Manufacturer_Part_Number: KSZ8795CLXIC; Mouser Part Number: 998-KSZ8795CLXIC; Mouser Price/Stock: https://www.mouser.co.uk/ProductDetail/Microchip-Technology/KSZ8795CLXIC?qs=%2Fc0cCNcL7Xwz7Lx%2FE%2FRbpQ%3D%3D; Arrow Part Number: KSZ8795CLXIC; Arrow Price/Stock: https://www.arrow.com/en/products/ksz8795clxic/microchip-technology?region=nac; Datasheet Link: http://ww1.microchip.com/downloads/en/DeviceDoc/00002112B.pdf
footprint QFP40P1200X1200X160-80N
pins: 1 VDD12A, 2 VDDAT_1, 3 GNDA_1, 4 RXP1, 5 RXM1, 6 TXP1, 7 TXM1, 8 RXP2, 9 RXM2, 10 TXP2, 11 TXM2, 12 VDDAT_2, 13 RXP3, 14 RXM3, 15 TXP3, 16 TXM3, 17 RXP4, 18 RXM4, 19 TXP4, 20 TXM4, 21 GNDA_2, 22 NC_1, 23 INTR_N, 24 LED3_1, 25 LED3_0, 26 VDD12D_1, 27 GNDD_1, 28 LED4_1, 29 TXEN5/__TXD5_CTL, 30 TXD5_0, 31 LED4_0, 32 TXD5_1, 33 GNDD_2, 34 VDDIO_1, 35 TXD5_2, 36 TXD5_3, 37 TXER5, 38 TXD5_4, 39 TXD5_5, 40 TXD5_6, 41 TXD5_7, 42 VDD12D_2, 43 TXC5/__REFCLKI/__GTXC5, 44 RXC5/__GRXC5, 45 RXD5_0, 46 RXD5_1, 47 GNDD_3, 48 VDDIO_2, 49 RXD5_2, 50 RXD5_3, 51 RXDV5/__CRSDV5/__RXD5_CTL, 52 RXER5, 53 CRS5, 54 COL5, 55 REFCLKO, 56 PME_N, 57 RXD5_4, 58 RXD5_5, 59 RXD5_6, 60 RXD5_7, 61 GNDD_4, 62 LED2_1, 63 LED2_0, 64 LED1_1, 65 LED1_0, 66 SPIQ, 67 SCL_MDC, 68 SDA_MDIO, 69 SPIS_N, 70 VDDIO_3, 71 GNDD_5, 72 RST_N, 73 VDD12D_3, 74 NC_2, 75 ATST, 76 VDDAT_3, 77 ISET, 78 GNDA_3, 79 XI, 80 XO

## KSZ8895MQXCA
designator U?
Ethernet Switch 10/100 Base-T/TX IÂ²C, SPI Interface 128-PQFP _14x20_; MF: Microchip; MP: KSZ8895MQXCA; SnapEDA_Link: https://www.snapeda.com/parts/KSZ8895MQXCA/Microchip/view-part/564726/?ref=snap; Price: None; Package: BFQFP-128 Microchip; Availability: Unavailable; Value: *
footprint QFP50P2320X1720X340-128N
part A pins: 1 MDI-XDIS, 4 RXP1, 5 RXM1, 7 TXP1, 8 TXM1, 10 RXP2, 11 RXM2, 13 TXP2, 14 TXM2, 17 ISET, 19 RXP3, 20 RXM3, 22 TXP3, 23 TXM3, 25 RXP4, 26 RXM4, 28 TXP4, 29 TXM4, 32 RXP5, 33 RXM5, 35 TXP5, 36 TXM5, 38 NC/FXSD3, 39 FXSD4, 47 PWRDN_N, 48 INTR_N, 51 PMTXEN, 52 PMTXD3, 53 PMTXD2, 54 PMTXD1, 55 PMTXD0, 56 PMTXER, 57 PMTXC/PMREFCLK, 60 PMRXC, 61 PMRXDV/PMCRSDV, 62 PMRXD3, 63 PMRXD2, 64 PMRXD1, 65 PMRXD0, 66 PMRXER, 67 PCRS, 68 PCOL, 69 SMTXEN, 70 SMTXD3, 71 SMTXD2, 72 SMTXD1, 73 SMTXD0, 74 SMTXER, 75 SMTXC/SMREFCLK, 78 SMRXC, 79 SMRXDV/SMCRSDV, 80 SMRXD3, 81 SMRXD2, 82 SMRXD1, 83 SMRXD0, 84 SCOL, 85 SCRS, 86 SCONF1, 87 SCONF0, 90 LED5-2, 91 LED5-1, 92 LED5-0, 93 LED4-2, 94 LED4-1, 95 LED4-0, 96 LED3-2, 97 LED3-1, 98 LED3-0, 101 LED2-2, 102 LED2-1, 103 LED2-0, 104 LED1-2, 105 LED1-1, 106 LED1-0, 107 MDC, 108 MDIO, 109 SPIQ, 110 SPIC/SCL, 111 SSPID/SDA, 112 SPIS_N, 113 PS1, 114 PS0, 115 RST_N, 118 TESTEN, 119 SCANEN, 121 X1, 122 X2, 126 IN_PWR_SEL, 128 TEST2
part B pins: 2 GNDA, 3 VDDAR, 6 GNDA, 9 VDDAT, 12 GNDA, 15 VDDAR, 16 GNDA, 18 VDDAT, 21 GNDA, 24 VDDAT, 27 GNDA, 30 GNDA, 31 VDDAR, 34 GNDA, 37 VDDAT, 49 GNDD, 50 VDDC, 58 GNDD, 59 VDDIO, 76 GNDD, 77 VDDIO, 88 GNDD, 89 VDDC, 99 GNDD, 100 VDDIO, 116 GNDD, 117 VDDC, 125 LDO_O, 127 GNDA

## L77SDEH09SOL2RM5
designator J?
Dsub, Stamped Signal 3A, Straight PCB Thru Hole,  09 Socket, Flash Gold, Bright Tin Shell, 4-40 Threaded Standoff 6.0mm (0.236in), With Boardlock 4.2mm (0.165in); Manufacturer_Name: Amphenol Communications Solutions; Geometry.Height: 12.5mm; Manufacturer_Part_Number: L77SDEH09SOL2RM5; Mouser Part Number: 523-L77SDEH09SOL2RM5; Mouser Price/Stock: https://www.mouser.co.uk/ProductDetail/Amphenol-Commercial-Products/L77SDEH09SOL2RM5?qs=mq7kV%2Fq8lk5mrczxfq2%252BXg%3D%3D; Arrow Part Number: L77SDEH09SOL2RM5; Arrow Price/Stock: https://www.arrow.com/en/products/l77sdeh09sol2rm5/amphenol-fci?region=nac; Datasheet Link: https://cdn.amphenol-cs.com/media/wysiwyg/files/drawing/l77sdxhxxsol2rm5.pdf
footprint L77SDEH09SOL2RM5
pins: 1, 2, 3, 4, 5, 6, 7, 8, 9, MH1, MH2

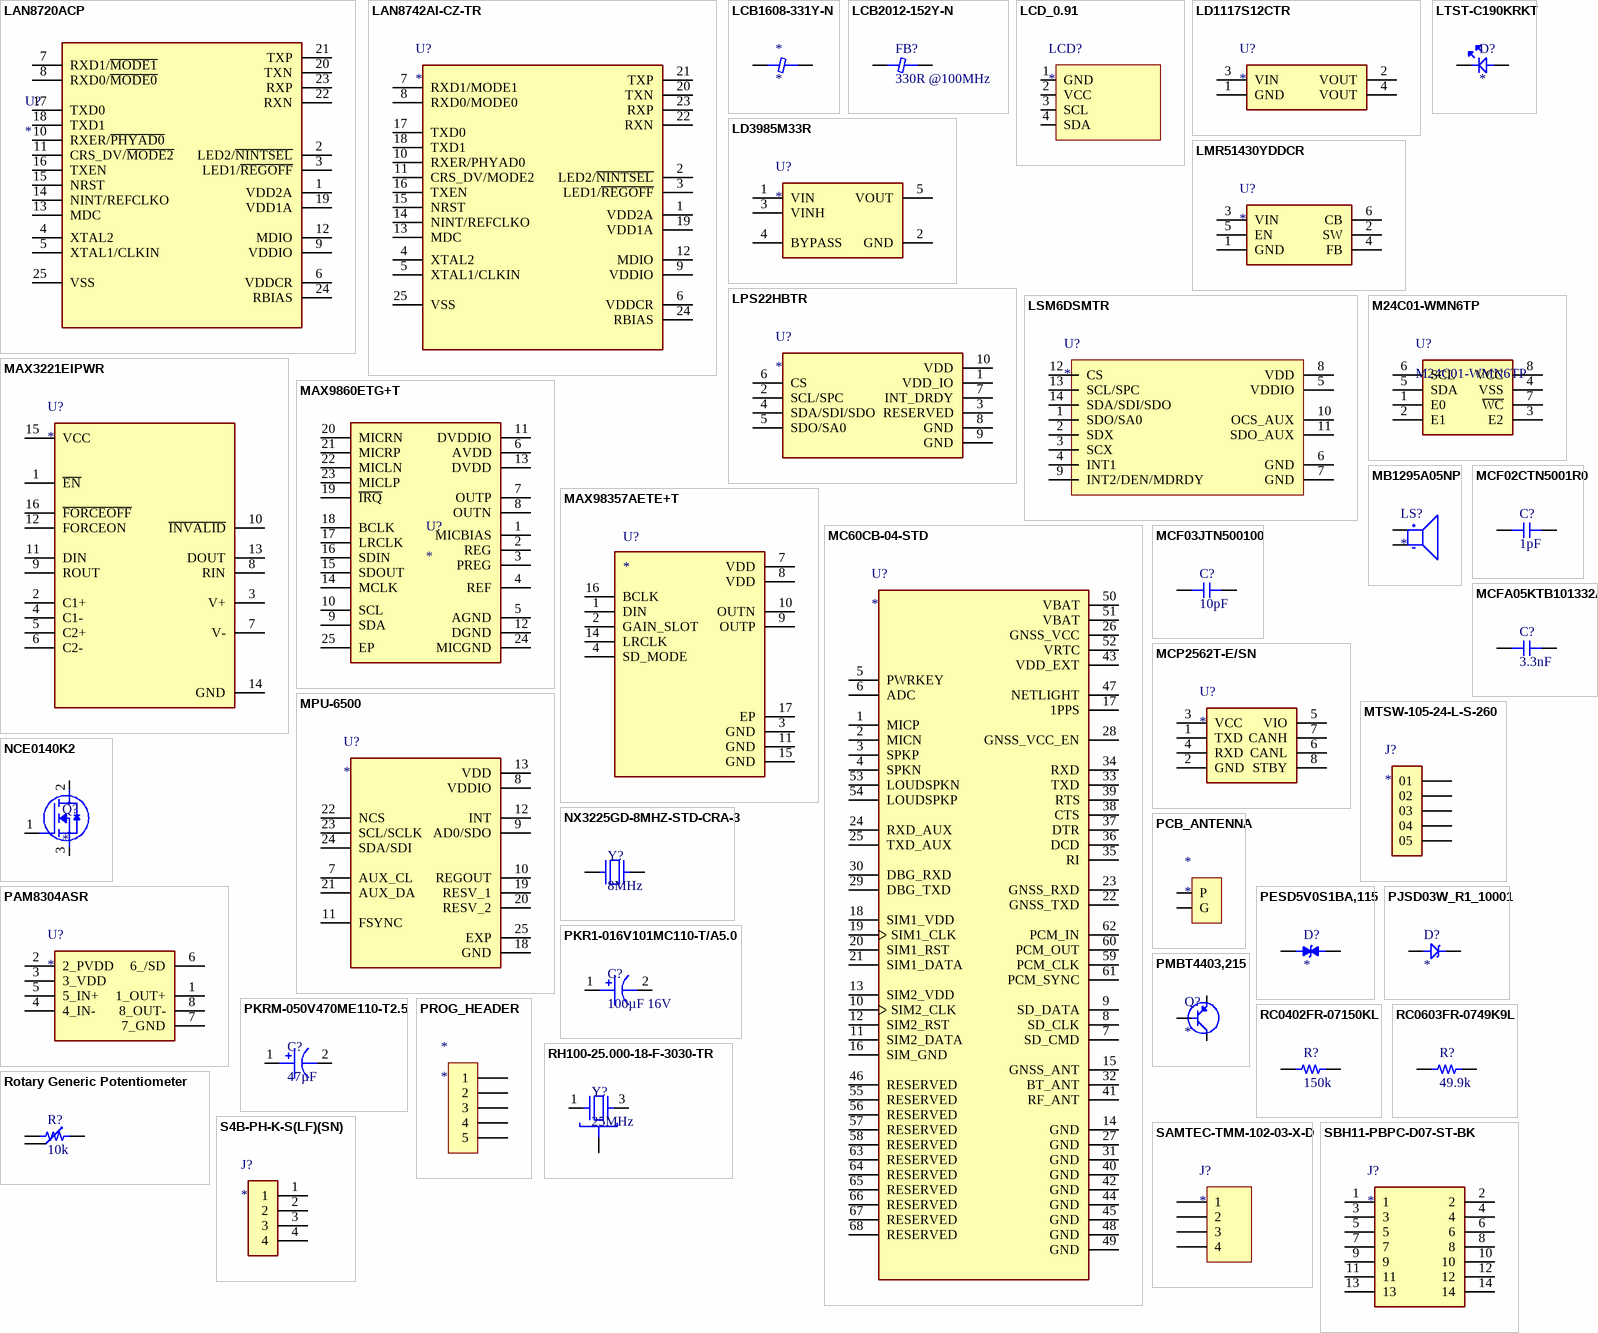
[diagram p3: symbols LAN8720ACP to SBH11-PBPC-D07-ST-BK]

## LAN8720ACP
designator U?
10-100Mbps Ethernet PHY Transreceiver IC; Manufacturer_Name: Microchip; Manufacturer_Part_Number: LAN8720ACP; Datasheet Link: http://ww1.microchip.com/downloads/en/DeviceDoc/8720a.pdf; Height: 1mm
footprint QFN50P400X400X100-25N-D
pins: 1 VDD2A, 2 LED2/~{NINTSEL}, 3 LED1/~{REGOFF}, 4 XTAL2, 5 XTAL1/CLKIN, 6 VDDCR, 7 RXD1/~{MODE1}, 8 RXD0/~{MODE0}, 9 VDDIO, 10 RXER/~{PHYAD0}, 11 CRS_DV/~{MODE2}, 12 MDIO, 13 MDC, 14 NINT/REFCLKO, 15 NRST, 16 TXEN, 17 TXD0, 18 TXD1, 19 VDD1A, 20 TXN, 21 TXP, 22 RXN, 23 RXP, 24 RBIAS, 25 VSS

## LAN8742AI-CZ-TR
designator U?
1/1 Transceiver Full Ethernet 24-SQFN (4x4); MP: LAN8742AI-CZ-TR; MF: Microchip; SnapEDA_Link: https://www.snapeda.com/parts/LAN8742AI-CZ-TR/Microchip/view-part/?ref=snap; Availability: In Stock; Package: VFQFN-24 Microchip Technology; Purchase-URL: https://pricing.snapeda.com/search/part/LAN8742AI-CZ-TR/?ref=eda; Check_prices: https://www.snapeda.com/parts/LAN8742AI-CZ-TR/Microchip/view-part/?ref=eda; Value: *; Price: None
footprint QFN50P400X400X100-25N-D
pins: 1 VDD2A, 2 LED2/~{NINTSEL}, 3 LED1/~{REGOFF}, 4 XTAL2, 5 XTAL1/CLKIN, 6 VDDCR, 7 RXD1/MODE1, 8 RXD0/MODE0, 9 VDDIO, 10 RXER/PHYAD0, 11 CRS_DV/MODE2, 12 MDIO, 13 MDC, 14 NINT/REFCLKO, 15 NRST, 16 TXEN, 17 TXD0, 18 TXD1, 19 VDD1A, 20 TXN, 21 TXP, 22 RXN, 23 RXP, 24 RBIAS, 25 VSS

## LCB1608-331Y-N
designator *
footprint Inductor-0603
pins: 1, 2

## LCB2012-152Y-N
designator FB?, comment 330R @100MHz
FERRITE BEAD 0603 330R/100MHZ SMD
footprint Inductor-0805
pins: 1, 2

## LCD_0.91
designator LCD?
footprint 0_91-OLED
pins: 1 GND, 2 VCC, 3 SCL, 4 SDA

## LD1117S12CTR
designator U?
Linear Voltage Regulator IC Positive Fixed 1 Output 800mA SOT-223; MP: AMS1117; MF: Advanced Monolithic Systems; Price: None; Availability: Not in stock; Package: SOT-223 Seeed Technology; Value: *; SnapEDA_Link: https://www.snapeda.com/parts/AMS1117/Advanced+Monolithic+Systems/view-part/?ref=snap; Check_prices: https://www.snapeda.com/parts/AMS1117/Advanced+Monolithic+Systems/view-part/?ref=eda
footprint SOT229P700X180-4N
pins: 1 GND (power), 2 VOUT, 3 VIN, 4 VOUT

## LD3985M33R
designator U?
IC REG LIN 3.3V 150MA TSOT23-5; MP: LD3985M33R; Package: None; Availability: Unavailable; Value: *; Price: None
footprint SOT95P280X145-5N
pins: 1 VIN, 2 GND (power), 3 VINH, 4 BYPASS, 5 VOUT

## LMR51430YDDCR
designator U?
SIMPLE SWITCHER® 4.5-V to 36-V, 3-A synchronous buck converter with 40-µA IQ 1.1MHz; Manufacturer_Name: Texas Instruments; Manufacturer_Part_Number: TPS54302DDCR; Datasheet Link: http://www.ti.com/general/docs/suppproductinfo.tsp?distId=10&gotoUrl=http%3A%2F%2Fwww.ti.com%2Flit%2Fgpn%2Ftps54302; Height: 1.1mm; Mouser Part Number: 595-TPS54302DDCR; Mouser Price/Stock: https://www.mouser.co.uk/ProductDetail/Texas-Instruments/TPS54302DDCR?qs=zEmsApcVOkUXM7UP0GSO2g%3D%3D; Arrow Part Number: TPS54302DDCR; Arrow Price/Stock: https://www.arrow.com/en/products/tps54302ddcr/texas-instruments?region=nac
footprint SOT95P280X110-6N
pins: 1 GND, 2 SW, 3 VIN, 4 FB, 5 EN, 6 CB

## LPS22HBTR
designator U?
Pressure Sensor 3.77PSI ~ 18.27PSI (26kPa ~ 126kPa) Absolute 24 b 10-WFLGA Exposed Pad; MP: LPS22HBTR; MF: STMicroelectronics; SnapEDA_Link: https://www.snapeda.com/parts/LPS22HBTR/STMicroelectronics/view-part/?ref=snap; Package: WFLGA-10 STMicroelectronics; Check_prices: https://www.snapeda.com/parts/LPS22HBTR/STMicroelectronics/view-part/?ref=eda; Purchase-URL: https://pricing.snapeda.com/search/part/LPS22HBTR/?ref=eda; Price: None; Value: *; Availability: In Stock
footprint PQFN50P200X200X80-10N
pins: 1 VDD_IO (power), 2 SCL/SPC, 3 RESERVED, 4 SDA/SDI/SDO, 5 SDO/SA0, 6 CS, 7 INT_DRDY, 8 GND (power), 9 GND (power), 10 VDD (power)

## LSM6DSMTR
designator U?
Accelerometer, Gyroscope, Temperature, 6 Axis Sensor IÂ²C, SPI Output; MF: STMicroelectronics; MP: LSM6DSMTR; Value: *; Availability: Unavailable; SnapEDA_Link: https://www.snapeda.com/parts/LSM6DSMTR/STMicroelectronics/view-part/581716/?ref=snap; Package: VFLGA-14 STMicroelectronics; Price: None
footprint PQFN50P300X250X86-14N
pins: 1 SDO/SA0, 2 SDX, 3 SCX, 4 INT1, 5 VDDIO, 6 GND, 7 GND, 8 VDD, 9 INT2/DEN/MDRDY, 10 OCS_AUX, 11 SDO_AUX, 12 CS, 13 SCL/SPC, 14 SDA/SDI/SDO

## LTST-C190KRKT
designator D?
LED SMD 0603 RED 18-180mcd 130° WATER CLEAR; Manufacturer_Name: Lite-On; Manufacturer_Part_Number: LTST-C190KRKT; Datasheet Link: https://componentsearchengine.com/Datasheets/1/LTST-C190KRKT.pdf; Height: 0.8mm; Mouser Part Number: 859-LTST-C190KRKT; Mouser Price/Stock: https://www.mouser.co.uk/ProductDetail/Lite-On/LTST-C190KRKT?qs=kAD5fFa1n5VY3YYNWPC1Fg%3D%3D; Arrow Part Number: LTST-C190KRKT; Arrow Price/Stock: https://www.arrow.com/en/products/ltst-c190krkt/lite-on-technology?region=europe
footprint LEDC1608X80N
pins: 1 K, 2 A

## M24C01-WMN6TP
designator U?
EEPROM Memory IC 1Kb (128 x 8) IÂ²C 400kHz 900ns 8-SO; MF: STMicroelectronics; Mouser-Purchase-URL: https://snapeda.com/shop?store=Mouser&id=104564; DigiKey-Purchase-URL: https://snapeda.com/shop?store=DigiKey&id=104564; SnapEDA_Link: https://www.snapeda.com/parts/M24C01-WMN6TP/STMicroelectronics/view-part/104564/?ref=snap; Availability: Warning; MP: M24C01-WMN6TP; Price: None; Package: SO-8 STMicroelectronics; Value: *
footprint SOIC127P600X175-8N
pins: 1 E0, 2 E1, 3 E2, 4 VSS, 5 SDA, 6 SCL, 7 ~{WC}, 8 VCC (power)

## MAX3221EIPWR
designator U?
3-V to 5.5-V Single-Channel RS-232 Line Driver/Receiver 16-TSSOP 0 to 70; MP: MAX3221EIPWR; Value: *; Availability: Unavailable; Package: None; Price: None
footprint SOP65P640X120-16N
pins: 1 ~{EN}, 2 C1+, 3 V+, 4 C1-, 5 C2+, 6 C2-, 7 V-, 8 RIN, 9 ROUT, 10 ~{INVALID}, 11 DIN, 12 FORCEON, 13 DOUT, 14 GND, 15 VCC, 16 ~{FORCEOFF}

## MAX9860ETG+T
designator U?
IC CODEC MONO AUD 16BIT 24TQFN; Manufacturer_Name: Analog Devices; Manufacturer_Part_Number: MAX9860ETG+T; Datasheet Link: https://datasheets.maximintegrated.com/en/ds/MAX9860.pdf; Height: 0.8mm; Mouser Part Number: 700-MAX9860ETGT; Mouser Price/Stock: https://www.mouser.co.uk/ProductDetail/Analog-Devices-Maxim-Integrated/MAX9860ETG%2bT?qs=LHmEVA8xxfYGy2Ln2j7A4Q%3D%3D; Arrow Part Number: MAX9860ETG+T; Arrow Price/Stock: https://www.arrow.com/en/products/max9860etgt/maxim-integrated?region=nac
footprint QFN50P400X400X80-25N
pins: 1 MICBIAS, 2 REG, 3 PREG, 4 REF, 5 AGND, 6 AVDD, 7 OUTP, 8 OUTN, 9 SDA, 10 SCL, 11 DVDDIO, 12 DGND, 13 DVDD, 14 MCLK, 15 SDOUT, 16 SDIN, 17 LRCLK, 18 BCLK, 19 ~{IRQ}, 20 MICRN, 21 MICRP, 22 MICLN, 23 MICLP, 24 MICGND, 25 EP

## MAX98357AETE+T
designator U?
Amplifier IC 1-Channel _Mono_ Class D 16-TQFN _3x3_; MP: MAX98357AETE+T; MF: Maxim Integrated; Availability: Unavailable; SnapEDA_Link: https://www.snapeda.com/parts/MAX98357AETE%2BT/Maxim%20Integrated/view-part/48842/?ref=snap; Package: TQFN-16 Maxim; Price: None; Value: *
footprint QFN50P300X300X80-17N
pins: 1 DIN, 2 GAIN_SLOT, 3 GND, 4 SD_MODE, 7 VDD, 8 VDD, 9 OUTP, 10 OUTN, 11 GND, 14 LRCLK, 15 GND, 16 BCLK, 17 EP

## MB1295A05NP
designator LS?
BUZZER MAGNETIC WITH CIRCUIT 5V 2.3-kHz THT; MP: AT-1224-TWT-5V-2-R; Package: None; Price: None; Value: *; Availability: Unavailable
footprint XDCR_AT-1224-TWT-5V-2-R
pins: N, P

## MC60CB-04-STD
designator U?
MC60 is a quad-band full-featured GSM/GPRS module using LCC castellation package. With an extensive set of Internet protocols (TCP, UDP, PPP, FTP, HTTP and SSL), it has integrated the GNSS technology for satellite navigation; MF: Quectel; MP: MC60CB-04-STD; Value: *; Check_prices: https://www.snapeda.com/parts/MC60CB-04-STD/Quectel/view-part/?ref=eda; Price: None; Package: SMD Quectel Wireless Solutions Co., Ltd; Availability: Not in stock; SnapEDA_Link: https://www.snapeda.com/parts/MC60CB-04-STD/Quectel/view-part/?ref=snap
footprint XCVR_MC60CB-04-STD
pins: 1 MICP, 2 MICN, 3 SPKP, 4 SPKN, 5 PWRKEY, 6 ADC, 7 SD_CMD, 8 SD_CLK, 9 SD_DATA, 10 SIM2_CLK, 11 SIM2_DATA, 12 SIM2_RST, 13 SIM2_VDD, 14 GND (power), 15 GNSS_ANT, 16 SIM_GND, 17 1PPS, 18 SIM1_VDD, 19 SIM1_CLK, 20 SIM1_RST, 21 SIM1_DATA, 22 GNSS_TXD, 23 GNSS_RXD, 24 RXD_AUX, 25 TXD_AUX, 26 GNSS_VCC, 27 GND (power), 28 GNSS_VCC_EN, 29 DBG_TXD, 30 DBG_RXD, 31 GND (power), 32 BT_ANT, 33 TXD, 34 RXD, 35 RI, 36 DCD, 37 DTR, 38 CTS, 39 RTS, 40 GND (power), 41 RF_ANT, 42 GND (power), 43 VDD_EXT, 44 GND (power), 45 GND (power), 46 RESERVED, 47 NETLIGHT, 48 GND (power), 49 GND (power), 50 VBAT, 51 VBAT, 52 VRTC, 53 LOUDSPKN, 54 LOUDSPKP, 55 RESERVED, 56 RESERVED, 57 RESERVED, 58 RESERVED, 59 PCM_CLK, 60 PCM_OUT, 61 PCM_SYNC, 62 PCM_IN, 63 RESERVED, 64 RESERVED, 65 RESERVED, 66 RESERVED, 67 RESERVED, 68 RESERVED

## MCF02CTN5001R0
designator C?, comment 1pF
MLCC (1005) 0402 1pF 50VDC ±0.1pF C0G (NP0)
footprint 0402_CAP
pins: 1, 2

## MCF03JTN500100
designator C?, comment 10pF
MLCC (1608) 0603 10pF 50VDC ±5% C0G (NP0)
footprint 0603
pins: 1, 2

## MCFA05KTB101332A
designator C?, comment 3.3nF
MLCC (2012) 0805 3.3nF 100VDC ±10% X7R AUTOMOTIVE
footprint 0603
pins: 1, 2

## MCP2562T-E/SN
designator U?
1/1 Transceiver Half CANbus 8-SO; MF: NXP USA; MP: TJA1050T/CM,118; SnapEDA_Link: https://www.snapeda.com/parts/TJA1050T/CM,118/NXP%20USA%20Inc./view-part/304529/?ref=snap; Value: *; Purchase-URL: https://pricing.snapeda.com/search/part/TJA1050T/CM,118/?ref=eda; Check_prices: https://www.snapeda.com/parts/TJA1050T/CM,118/NXP%20USA%20Inc./view-part/304529/?ref=eda; Price: None; Availability: In Stock; Package: SO-8 NXP Semiconductors
footprint SOIC127P600X175-8N
pins: 1 TXD, 2 GND (power), 3 VCC (power), 4 RXD, 5 VIO, 6 CANL, 7 CANH, 8 STBY

## MPU-6500
designator U?
Accelerometer, Gyroscope, 6 Axis Sensor IÂ²C, SPI Output; MF: TDK InvenSense; Price: None; Value: *; Package: QFN-24 TDK; Mouser-Purchase-URL: https://snapeda.com/shop?store=Mouser&id=48597; SnapEDA_Link: https://www.snapeda.com/parts/MPU-6500/TDK%20InvenSense/view-part/48597/?ref=snap; DigiKey-Purchase-URL: https://snapeda.com/shop?store=DigiKey&id=48597; MP: MPU-6500; Availability: Warning
footprint QFN40P300X300X95-25N
pins: 7 AUX_CL, 8 VDDIO, 9 AD0/SDO, 10 REGOUT, 11 FSYNC, 12 INT, 13 VDD, 18 GND, 19 RESV_1, 20 RESV_2, 21 AUX_DA, 22 NCS, 23 SCL/SCLK, 24 SDA/SDI, 25 EXP

## MTSW-105-24-L-S-260
designator J?
MP: MTSW-105-24-L-S-260; Availability: Unavailable; Package: None; Value: *; Price: None
footprint SAMTEC_MTSW-105-24-L-S-260
pins: 01, 02, 03, 04, 05

## NCE0140K2
designator Q?
100V 40A 17mΩ@10V,28A 140W 3V 1 N-channel TO-252 MOSFETs ROHS; Height: 2.38mm
footprint TO-252
pins: 1 G, 2 D, 3 S

## NX3225GD-8MHZ-STD-CRA-3
designator Y?, comment 8MHz
CRYSTAL 8MHZ 8PF SMD NDK
footprint XTAL_NX3225GD-8MHZ-STD-CRA-3
pins: 1, 2

## PAM8304ASR
designator U?
Amplifier IC 1-Channel (Mono) Class D 8L-MSOP; MP: PAM8304ASR; MF: Diodes Inc.; Value: *; SnapEDA_Link: https://www.snapeda.com/parts/PAM8304ASR/Diodes+Inc./view-part/?ref=snap; Availability: In Stock; Package: MSOP-8 Diodes Inc.; Price: None; Check_prices: https://www.snapeda.com/parts/PAM8304ASR/Diodes+Inc./view-part/?ref=eda; Purchase-URL: https://pricing.snapeda.com/search/part/PAM8304ASR/?ref=eda
footprint MSOP08
pins: 1 1_OUT+, 2 2_PVDD, 3 3_VDD, 4 4_IN-, 5 5_IN+, 6 6_/SD, 7 7_GND, 8 8_OUT-

## PCB_ANTENNA
designator *
footprint ANT_50R
pins: G, P

## PESD5V0S1BA,115
designator D?
12A 130W 14V 5.5V Bidirectional 5V SOD-323 ESD and Surge Protection (TVS/ESD) ROHS; Manufacturer_Name: Lite-On; Manufacturer_Part_Number: LTST-C190KRKT; Datasheet Link: https://componentsearchengine.com/Datasheets/1/LTST-C190KRKT.pdf; Height: 0.8mm; Mouser Part Number: 859-LTST-C190KRKT; Mouser Price/Stock: https://www.mouser.co.uk/ProductDetail/Lite-On/LTST-C190KRKT?qs=kAD5fFa1n5VY3YYNWPC1Fg%3D%3D; Arrow Part Number: LTST-C190KRKT; Arrow Price/Stock: https://www.arrow.com/en/products/ltst-c190krkt/lite-on-technology?region=europe
footprint SOD323
pins: A, C

## PJSD03W_R1_10001
designator D?
DIODE TVS 3V SOD323 SMT; Manufacturer_Name: Lite-On; Manufacturer_Part_Number: LTST-C190KRKT; Datasheet Link: https://componentsearchengine.com/Datasheets/1/LTST-C190KRKT.pdf; Height: 0.8mm; Mouser Part Number: 859-LTST-C190KRKT; Mouser Price/Stock: https://www.mouser.co.uk/ProductDetail/Lite-On/LTST-C190KRKT?qs=kAD5fFa1n5VY3YYNWPC1Fg%3D%3D; Arrow Part Number: LTST-C190KRKT; Arrow Price/Stock: https://www.arrow.com/en/products/ltst-c190krkt/lite-on-technology?region=europe
footprint SOD323
pins: A, C

## PKR1-016V101MC110-T/A5.0
designator C?, comment 100µF 16V
CAP.EL.100uF 16V 5x11 5MM 85C TB KOSHIN
footprint CAP_5x11_2
pins: 1 +, 2 -

## PKRM-050V470ME110-T2.5
designator C?, comment 47µF
CAP.EL.47uF 50V 6.3x11 2.5MM 105C TB KOSHIN
footprint CAP_63x11x25
pins: 1 +, 2 -

## PMBT4403,215
designator Q?
40V 250mW 100@150mA,2V 600mA PNP SOT-23 Bipolar (BJT) ROHS; Manufacturer_Name: Nexperia; Manufacturer_Part_Number: BC817-40,215; Datasheet Link: https://assets.nexperia.com/documents/data-sheet/BC817_SER.pdf; Height: 1.1mm; Mouser Part Number: 771-BC817-40-T/R; Mouser Price/Stock: https://www.mouser.co.uk/ProductDetail/Nexperia/BC817-40215?qs=me8TqzrmIYU%252B245p8hOLaQ%3D%3D; Arrow Part Number: BC817-40,215; Arrow Price/Stock: https://www.arrow.com/en/products/bc817-40215/nexperia?region=nac
footprint BC81740215
pins: 1 B, 2 E, 3 C

## PROG_HEADER
designator *
footprint 5PIN_254MM
pins: 1, 2, 3, 4, 5

## RC0402FR-07150KL
designator R?, comment 150k
RES.(1005) 0402 150K Ohms 1% 1/16W 100PPM SMT
footprint 0402_RES
pins: 1, 2